# Altium footprint library S10B-PUDSS-1.PcbLib: 1 footprints
Each footprint in its own frame and in the unit in brackets; x right, y up, seen from the top. Pads: shape width x height; smd on the part's side, far side on the other; paste and mask are expansions set on the pad; w line width, h text height; cw(c..) or ccw(c..) is an arc to the next point about the centre after c.
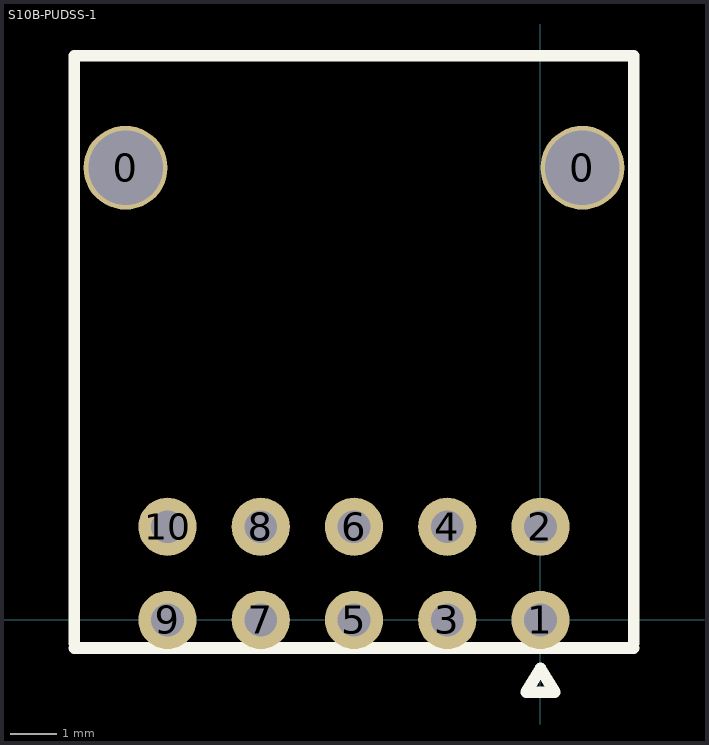
[diagram p0: the footprint, top view; thin cyan lines are the x and y axes]

## S10B-PUDSS-1 [mm] "10p side entry latched male pin crimp header w/ latch holder right angle"
height 8.5
pads (12):
  round 1.8 hole 1.6: 0(-8.9,9.7) 0(0.9,9.7)
  round 1.25 hole 0.7: 1(0,0) 2(0,2) 3(-2,0) 4(-2,2) 5(-4,0) 6(-4,2) 7(-6,0) 8(-6,2) 9(-8,0) 10(-8,2)
Top Overlay:
  lines w0.254: -10,-0.6 2,-0.6 ; -10,-0.5 -10,12.1 2,12.1 2,-0.5 ; -0.305,-1.549 0,-1.041 0.305,-1.549 0.254,-1.549 -0.305,-1.549
3D body: height 8.5, standoff -3, extent -9.993,-0.61 2.007,12.09